# Altium schematic symbol library Current_Sense_Transformer.Schlib: 1 symbol
Pins are listed as number, name and electrical type; pins without a type are passive.

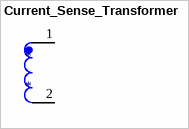
[diagram p0: symbol Current_Sense_Transformer]

## Current_Sense_Transformer
designator *  (net tie, no BOM)
pins: 1, 2